# EAGLE library part LT3650 (library jabinder)
A monolithic two cell lithium ion charger.
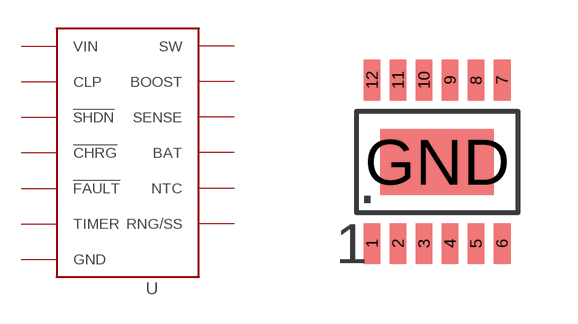
[diagram p0: symbol with the pads of 12-MSOP; footprint 12-MSOP]

Designator prefix -

## LT3650  [12-MSOP]
1  VIN
2  CLP
3  !SHDN
4  !CHRG
5  !FAULT
6  TIMER
7  RNG/SS
8  NTC
9  BAT
10  SENSE
11  BOOST
12  SW
GND  GND

## Footprint 12-MSOP (pad centres in mm)
smd 0.419 x 1.016: 1 -1.626,-2.045; 2 -0.975,-2.045; 3 -0.325,-2.045; 4 0.325,-2.045; 5 0.975,-2.045; 6 1.626,-2.045; 7 1.626,2.045; 8 0.975,2.045; 9 0.325,2.045; 10 -0.325,2.045; 11 -0.975,2.045; 12 -1.626,2.045
smd 2.845 x 1.651: GND 0,0